# Altium footprint library Capacitors.PcbLib: 81 footprints (part 3 of 6)
Each footprint in its own frame and in the unit in brackets; x right, y up, seen from the top. Pads: shape width x height; smd on the part's side, far side on the other; paste and mask are expansions set on the pad; w line width, h text height; cw(c..) or ccw(c..) is an arc to the next point about the centre after c.
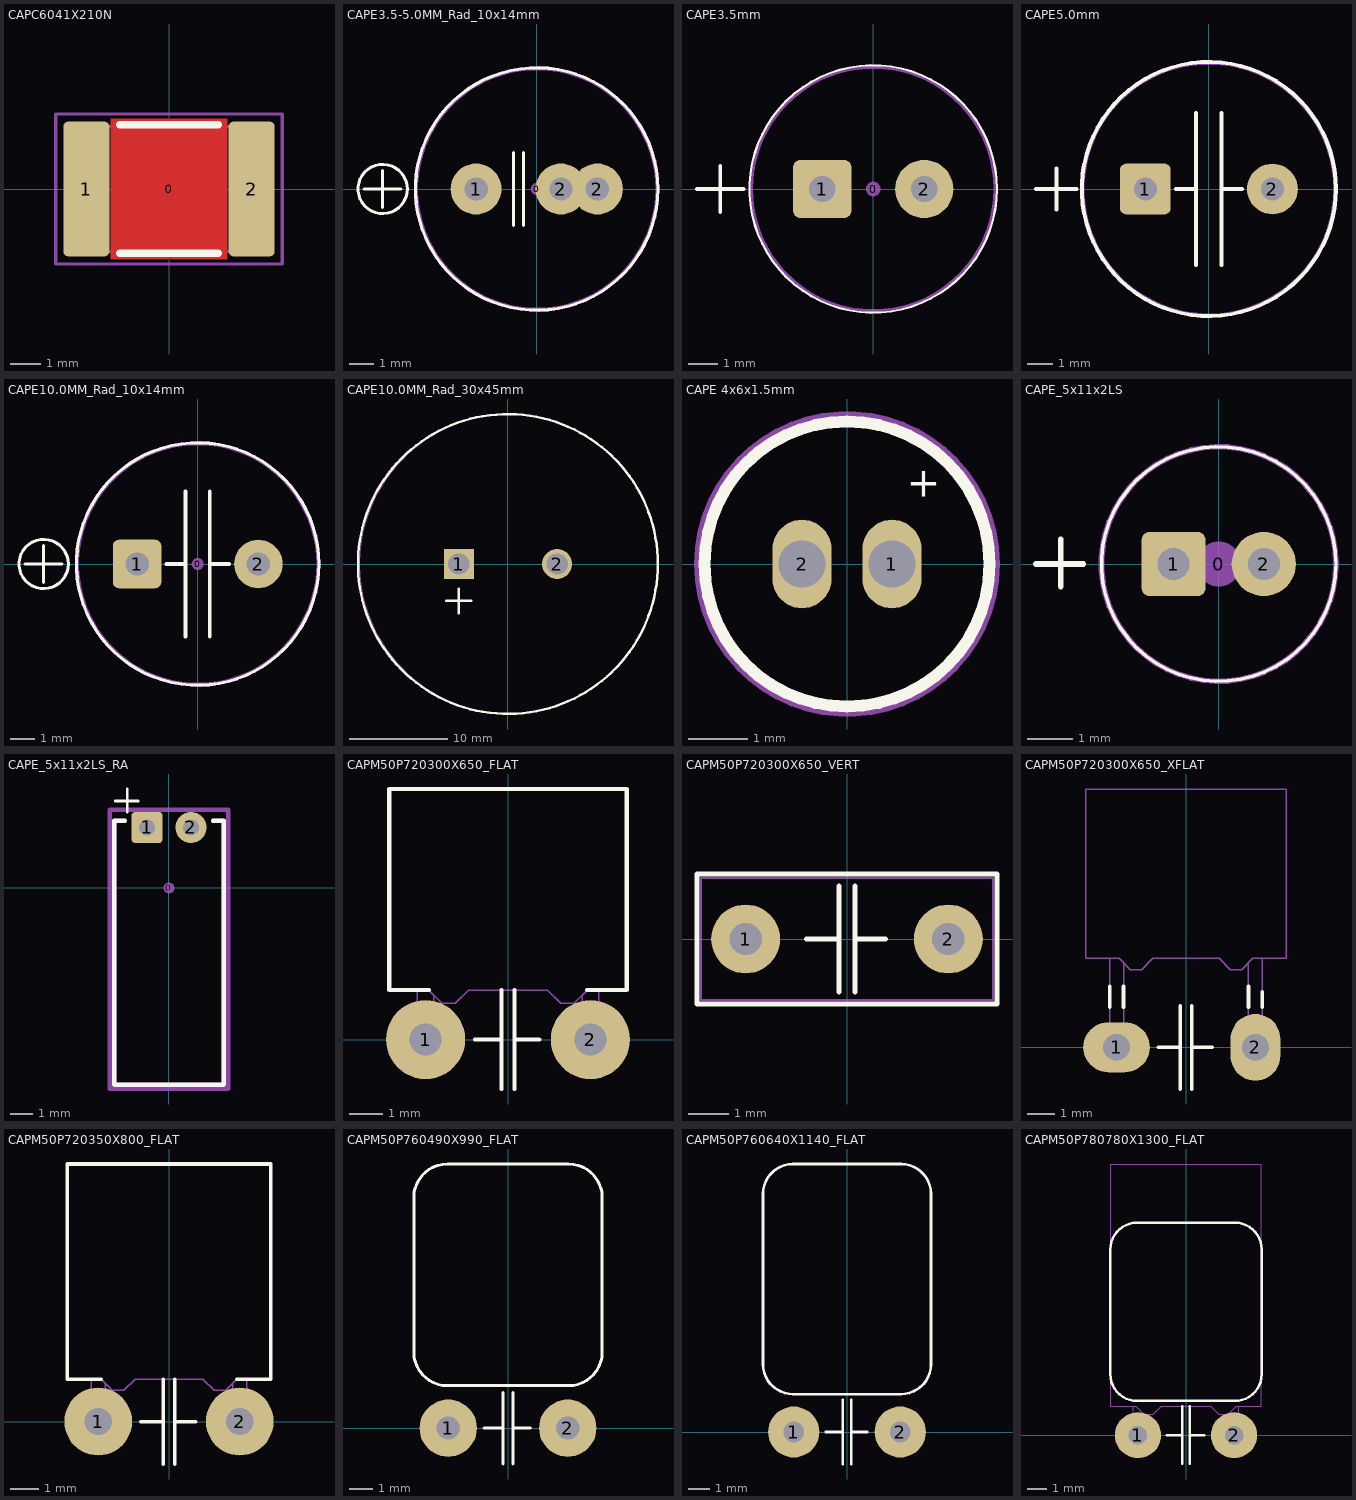
[diagram p2: the footprints below, top view; thin cyan lines are the x and y axes]

## CAPC6041X210N [mm] "Stacked film capacitor, Body 6.0x4.1mm, 2416, IPC Nominal settings"
height 2.1
pads (3):
  round 0.508 on Mech15: 0(0,0)
  rrect20% 1.5x4.4 smd: 1(-2.7,0) 2(2.7,0)
Top Layer:
  pour cut-out: -1.9,2.3 1.9,2.3 1.9,-2.3 -1.9,-2.3
Top Overlay:
  lines w0.254: -1.6,-2.1 1.6,-2.1 ; -1.6,2.1 1.6,2.1
Mechanical 13:
  lines w0.076: -3,-2.05 -3,2.05 3,2.05 3,-2.05 -3,-2.05
Mechanical 15:
  lines w0.1: -3.7,-2.45 -3.7,2.45 3.7,2.45 3.7,-2.45 -3.7,-2.45
3D body "CAPC6041X210N_FILM.STEP": height 2.09, standoff -0.01, extent -3,-2.05 3,2.05
3D body: height 1.25, standoff 0, extent -1.499,-0.799 1.499,0.799

## CAPE3.5-5.0MM_Rad_10x14mm [mm] "3.5 & 5.0mm Pitch Radial Capacitor 10x14mm DxH"
height 14
pads (4):
  round 0.5 on Mech15: 0(0,0)
  round 2.1 hole 0.965: 1(-2.5,0) 2(1,0) 2(2.5,0)
Top Overlay:
  circle w0.127: c-6.35,0 r1.016
  circle w0.127: c0,0 r5
  lines w0.127: -7.112,0 -5.588,0 ; -6.35,-0.762 -6.35,0.762 ; -0.95,-1.5 -0.95,1.5 ; -0.55,-1.5 -0.55,1.5
Mechanical 13:
  circle w0.127: c0,0 r4.953
Mechanical 15:
  circle w0.127: c0,0 r5
3D body "ElectroCap10x14mm.stp": height 13.99, standoff -3.51, extent -5.25,-5.237 5.206,5.237

## CAPE3.5mm [mm]
pads (3):
  round 0.508 on Mech15: 0(0,0)
  rrect25% 2x2 hole 0.9: 1(-1.75,0)
  round 2 hole 0.9: 2(1.75,0)
Top Overlay:
  circle w0.076: c0,0 r4.25
  lines w0.127: -6.05,0 -4.45,0 ; -5.25,-0.8 -5.25,0.8
Mechanical 13:
  circle w0.127: c0,0 r4.191
3D body: height 7.1, standoff 0.1, extent -4.25,-4.25 4.216,4.233

## CAPE5.0mm [mm]
height 20
pads (2):
  rrect25% 2x2 hole 0.9: 1(-2.5,0)
  round 2 hole 0.9: 2(2.5,0)
Top Overlay:
  circle w0.152: c0,0 r5
  lines w0.152: -6.8,0 -5.2,0 ; -6,-0.8 -6,0.8 ; -1.3,0 -0.5,0 ; -0.5,-3 -0.5,3 ; 0.5,-3 0.5,3 ; 0.5,0 1.3,0
Mechanical 13:
  circle w0.127: c0,-0.003 r4.953
3D body "ElectroCap20x10mm.stp": height 20, standoff -3.5, extent -4.958,-4.968 4.953,4.961

## CAPE10.0MM_Rad_10x14mm [mm] "10mm Pitch Radial Capacitor 10x14mm DxH"
height 14
pads (3):
  round 0.5 on Mech15: 0(0,0)
  rrect25% 2x2 hole 0.965: 1(-2.5,0)
  round 2 hole 0.965: 2(2.5,0)
Top Overlay:
  circle w0.127: c-6.35,0 r1.016
  circle w0.127: c0,0 r5
  lines w0.127: -7.112,0 -5.588,0 ; -6.35,-0.762 -6.35,0.762
  lines w0.152: -1.3,0.003 -0.5,0.003 ; -0.5,-2.997 -0.5,3.003 ; 0.5,-2.997 0.5,3.003 ; 0.5,0.003 1.3,0.003
Mechanical 13:
  circle w0.127: c0,0 r4.953
Mechanical 15:
  circle w0.127: c0,0 r5
3D body "ElectroCap10x14mm.stp": height 13.99, standoff -3.51, extent -5.25,-5.237 5.206,5.237

## CAPE10.0MM_Rad_30x45mm [mil] "10mm Pitch Radial Capacitor"
height 1771.65
pads (2):
  rect 120x120 hole 86: 1(-196.85,0)
  round 120 hole 86: 2(196.85,0)
Top Overlay:
  circle w10: c0,0 r600.39
  lines w10: -246.06,-147.64 -147.64,-147.64 ; -196.85,-196.85 -196.85,-98.43
Mechanical 15:
  circle w5: c3.15,0 r597.8
3D body "ElectroCap45x30mm.stp": height 1771.65, standoff -137.8, extent -585.73,-588.1 589.23,588.11

## CAPE 4x6x1.5mm [mm] "Electrolytic Capacitor,Thru-Hole,  2 Leads, Radial, 4mm Diameter, 6mm Height, 1.5mm Pin Spacing"
height 6
pads (2):
  oval 1x1.5 hole 0.8: 1(0.762,0) 2(-0.762,0)
Top Overlay:
  circle w0.2: c0,0 r2.413
  text "+" at 1.016,1.143 h0.5
Mechanical 1:
  circle w0.1: c0,0 r2.54
3D body "Cap-EL(4x6-1_5)T.STEP": height 6.5, standoff -0.8, extent -2.002,-1.996 2,1.996

## CAPE_5x11x2LS [mil] "Capacitor, electrolytic, radial can"
height 433.07
pads (3):
  round 39.37 on Mech15: 0(0,0)
  rrect25% 56x56 hole 28: 1(-39.37,0)
  round 56 hole 28: 2(39.37,0)
Top Overlay:
  circle w3: c0,0 r102.36
  lines w5: -159.45,0 -118.11,0 ; -137.8,-19.68 -137.8,21.65
Mechanical 13:
  circle w5: c0,0 r102.36
3D body "Cap, elec, radial, 5x11x2LS.STEP": height 433.07, standoff -86.61, extent -98.42,-98.42 98.43,98.43

## CAPE_5x11x2LS_RA [mm] "Capacitor, electrolytic, radial can, laid over"
height 5
pads (3):
  round 0.5 on Mech15: 0(0,0)
  rrect25% 1.422x1.422 hole 0.711: 1(-1,2.75)
  round 1.422 hole 0.711: 2(1,2.75)
Top Overlay:
  lines w0.127: -2.45,3.95 -1.4,3.95 ; -1.9,3.45 -1.9,4.5
  lines w0.2: -2,3.05 -2.5,3.05 -2.5,-8.95 0,-8.95 2.5,-8.95 2.5,3.05 2,3.05
Mechanical 13:
  lines w0.2: -2,3.05 -2.5,3.05 -2.5,-8.95 0,-8.95 2.5,-8.95 2.5,3.05 2,3.05
Mechanical 15:
  lines w0.2: -2.7,-9.15 2.7,-9.15 2.7,3.55 -2.7,3.55 -2.7,-9.15
3D body "Cap, elec, radial, 5x11x2LS, RA.STEP": height 5.1, standoff -2.2, extent -2.5,-8.947 2.5,3

## CAPM50P720300X650_FLAT [mm] "Capacitor, THT, Metallized Polyester Film with 7.2x3.0x6.5mm LxTxH"
height 3
pads (2):
  round 2.4 hole 0.965: 1(-2.5,0) 2(2.5,0)
Top Overlay:
  lines w0.127: -2.4,1.5 -3.6,1.5 -3.6,7.6 3.6,7.6 3.6,1.5 2.4,1.5 ; -1,0 -0.2,0 ; -0.2,-1.5 -0.2,1.5 ; 0.2,-1.5 0.2,1.5 ; 0.2,0 0.95,0
Mechanical 13:
  lines w0.05: -2.75,0.75 -2.25,0.75 ; -2.75,1.5 -2.75,0 ccw(c-2.5,0) -2.25,0 -2.25,1.35 ; 2.25,0.75 2.75,0.75 ; 2.25,1.35 2.25,0 ccw(c2.5,0) 2.75,0 2.75,1.5 ; -3.6,1.5 -2.4,1.5 -2,1.1 -1.6,1.1 -1.2,1.5 1.2,1.5 1.6,1.1 2,1.1 2.4,1.5 3.6,1.5 3.6,7.6 -3.6,7.6 -3.6,1.5
3D body "CAPM50P720300X650_FLAT.STEP": height 3, standoff -1.78, extent -3.6,-0.249 3.6,7.6

## CAPM50P720300X650_VERT [mm] "Capacitor, THT, Metallized Polyester Film with 7.2x3.0x6.5mm LxTxH"
height 6.5
pads (2):
  round 1.7 / inner round 1.7 / far side round 2 hole 0.8: 1(-2.5,0) 2(2.5,0)
Top Overlay:
  lines w0.127: -1,0 -0.2,0 ; -0.2,-1.3 -0.2,1.3 ; 0.2,-1.3 0.2,1.3 ; 0.2,0 0.95,0 ; -3.7,-1.6 -3.7,1.6 3.7,1.6 3.7,-1.6 -3.7,-1.6
Mechanical 13:
  lines w0.05: -3.6,-1.5 -3.6,1.5 3.6,1.5 3.6,-1.5 -3.6,-1.5
3D body "CAPM50P720300X650_VERTICAL.STEP": height 6.5, standoff -1.78, extent -3.6,-1.5 3.6,1.5

## CAPM50P720300X650_XFLAT [mm] "Capacitor, THT, Metallized Polyester Film with 7.2x3.0x6.5mm LxTxH"
height 2
pads (2):
  oval 2.4x1.8 hole 0.965: 1(-2.5,0)
  oval 1.8x2.4 hole 0.965: 2(2.5,0)
Top Overlay:
  lines w0.127: -2.75,1.45 -2.75,2.2 ; -2.25,1.45 -2.25,2.2 ; -1,0 -0.2,0 ; -0.2,-1.5 -0.2,1.5 ; 0.2,-1.5 0.2,1.5 ; 0.2,0 0.95,0 ; 2.25,1.45 2.25,2.2 ; 2.75,1.45 2.75,2
Mechanical 13:
  lines w0.05: -2.75,0.45 -2.25,0.45 ; -2.75,3.2 -2.75,0 ccw(c-2.5,0) -2.25,0 -2.25,3.05 ; 2.25,0.45 2.75,0.45 ; 2.25,3.05 2.25,0 ccw(c2.5,0) 2.75,0 2.75,3.2 ; -3.6,3.2 -3.6,9.3 3.6,9.3 3.6,3.2 2.4,3.2 2,2.8 1.6,2.8 1.2,3.2 -1.2,3.2 -1.6,2.8 -2,2.8 -2.4,3.2 -3.6,3.2
3D body "CAPM50P720300X650_XFLAT.STEP": height 2, standoff -1.78, extent -3.6,-0.249 3.6,9.3

## CAPM50P720350X800_FLAT [mm] "Capacitor, THT, Metallized Polyester Film with 7.2x3.5x8.0mm LxTxH"
height 3.5
pads (2):
  round 2.4 hole 0.965: 1(-2.5,0) 2(2.5,0)
Top Overlay:
  lines w0.127: -2.4,1.5 -3.6,1.5 -3.6,9.1 3.6,9.1 3.6,1.5 2.4,1.5 ; -1,0 -0.2,0 ; -0.2,-1.5 -0.2,1.5 ; 0.2,-1.5 0.2,1.5 ; 0.2,0 0.95,0
Mechanical 13:
  lines w0.05: -2.75,0.75 -2.25,0.75 ; -2.75,1.5 -2.75,0 ccw(c-2.5,0) -2.25,0 -2.25,1.35 ; 2.25,0.75 2.75,0.75 ; 2.25,1.35 2.25,0 ccw(c2.5,0) 2.75,0 2.75,1.5 ; -3.6,1.5 -3.6,9.1 3.6,9.1 3.6,1.5 2.4,1.5 2,1.1 1.6,1.1 1.2,1.5 -1.2,1.5 -1.6,1.1 -2,1.1 -2.4,1.5 -3.6,1.5
3D body "CAPM50P720350X800_FLAT.STEP": height 3.5, standoff -1.78, extent -3.6,-0.249 3.6,9.1

## CAPM50P760490X990_FLAT [mm] "Capacitor, THT, Metallized Polyester Film with 7.2x4.5x9.5mm LxTxH"
height 4.9
pads (2):
  round 2.4 hole 0.965: 1(-2.5,0) 2(2.5,0)
Top Overlay:
  lines w0.127: -1,0 -0.2,0 ; -0.2,-1.5 -0.2,1.5 ; 0.2,-1.5 0.2,1.5 ; 0.2,0 0.95,0 ; -3.937,3.175 ccw(c-2.54,3.175) -2.54,1.778 2.54,1.778 ccw(c2.54,3.175) 3.937,3.175 3.937,9.652 ccw(c2.54,9.652) 2.54,11.049 -2.54,11.049 ccw(c-2.54,9.652) -3.937,9.652 -3.937,3.175
3D body "CAPM50P760490X990_FLAT.STEP": height 4.9, standoff -1.78, extent -3.8,-0.249 3.8,11

## CAPM50P760640X1140_FLAT [mm] "Capacitor, THT, Metallized Polyester Film with 6.0x11.0x7.2mm TxHxW"
height 6.4
pads (2):
  round 2.4 hole 0.965: 1(-2.5,0) 2(2.5,0)
Top Overlay:
  lines w0.127: -1,0 -0.2,0 ; -0.2,-1.5 -0.2,1.5 ; 0.2,-1.5 0.2,1.5 ; 0.2,0 0.95,0 ; -3.937,3.175 ccw(c-2.54,3.175) -2.54,1.778 2.54,1.778 ccw(c2.54,3.175) 3.937,3.175 3.937,11.176 ccw(c2.54,11.176) 2.54,12.573 -2.54,12.573 ccw(c-2.54,11.176) -3.937,11.176 -3.937,3.175
3D body "CAPM50P760640X1140_FLAT.STEP": height 6.4, standoff -1.78, extent -3.8,-0.249 3.8,12.5

## CAPM50P780780X1300_FLAT [mm] "Capacitor, THT, Metallized Polyester Film with 7.8x7.8x13.0mm LxTxH"
height 7.8
pads (2):
  round 2.4 hole 0.965: 1(-2.5,0) 2(2.5,0)
Top Overlay:
  lines w0.127: -1,0 -0.2,0 ; -0.2,-1.5 -0.2,1.5 ; 0.2,-1.5 0.2,1.5 ; 0.2,0 0.95,0 ; -3.937,3.175 ccw(c-2.54,3.175) -2.54,1.778 2.54,1.778 ccw(c2.54,3.175) 3.937,3.175 3.937,9.652 ccw(c2.54,9.652) 2.54,11.049 -2.54,11.049 ccw(c-2.54,9.652) -3.937,9.652 -3.937,3.175
Mechanical 13:
  lines w0.05: -2.75,0.75 -2.25,0.75 ; -2.75,1.5 -2.75,0 ccw(c-2.5,0) -2.25,0 -2.25,1.15 ; 2.25,0.75 2.75,0.75 ; 2.25,1.15 2.25,0 ccw(c2.5,0) 2.75,0 2.75,1.5 ; -3.9,1.5 -2.6,1.5 -2.2,1.1 -1.7,1.1 -1.3,1.5 1.3,1.5 1.7,1.1 2.2,1.1 2.6,1.5 3.9,1.5 3.9,14.1 -3.9,14.1 -3.9,1.5
3D body "CAPM50P780780X1300_FLAT.STEP": height 7.8, standoff -1.78, extent -3.9,-0.249 3.9,14.1